# Altium footprint library ECEN299_JLC_PCB1.PcbLib: 15 footprints
Each footprint in its own frame and in the unit in brackets; x right, y up, seen from the top. Pads: shape width x height; smd on the part's side, far side on the other; paste and mask are expansions set on the pad; w line width, h text height; cw(c..) or ccw(c..) is an arc to the next point about the centre after c.
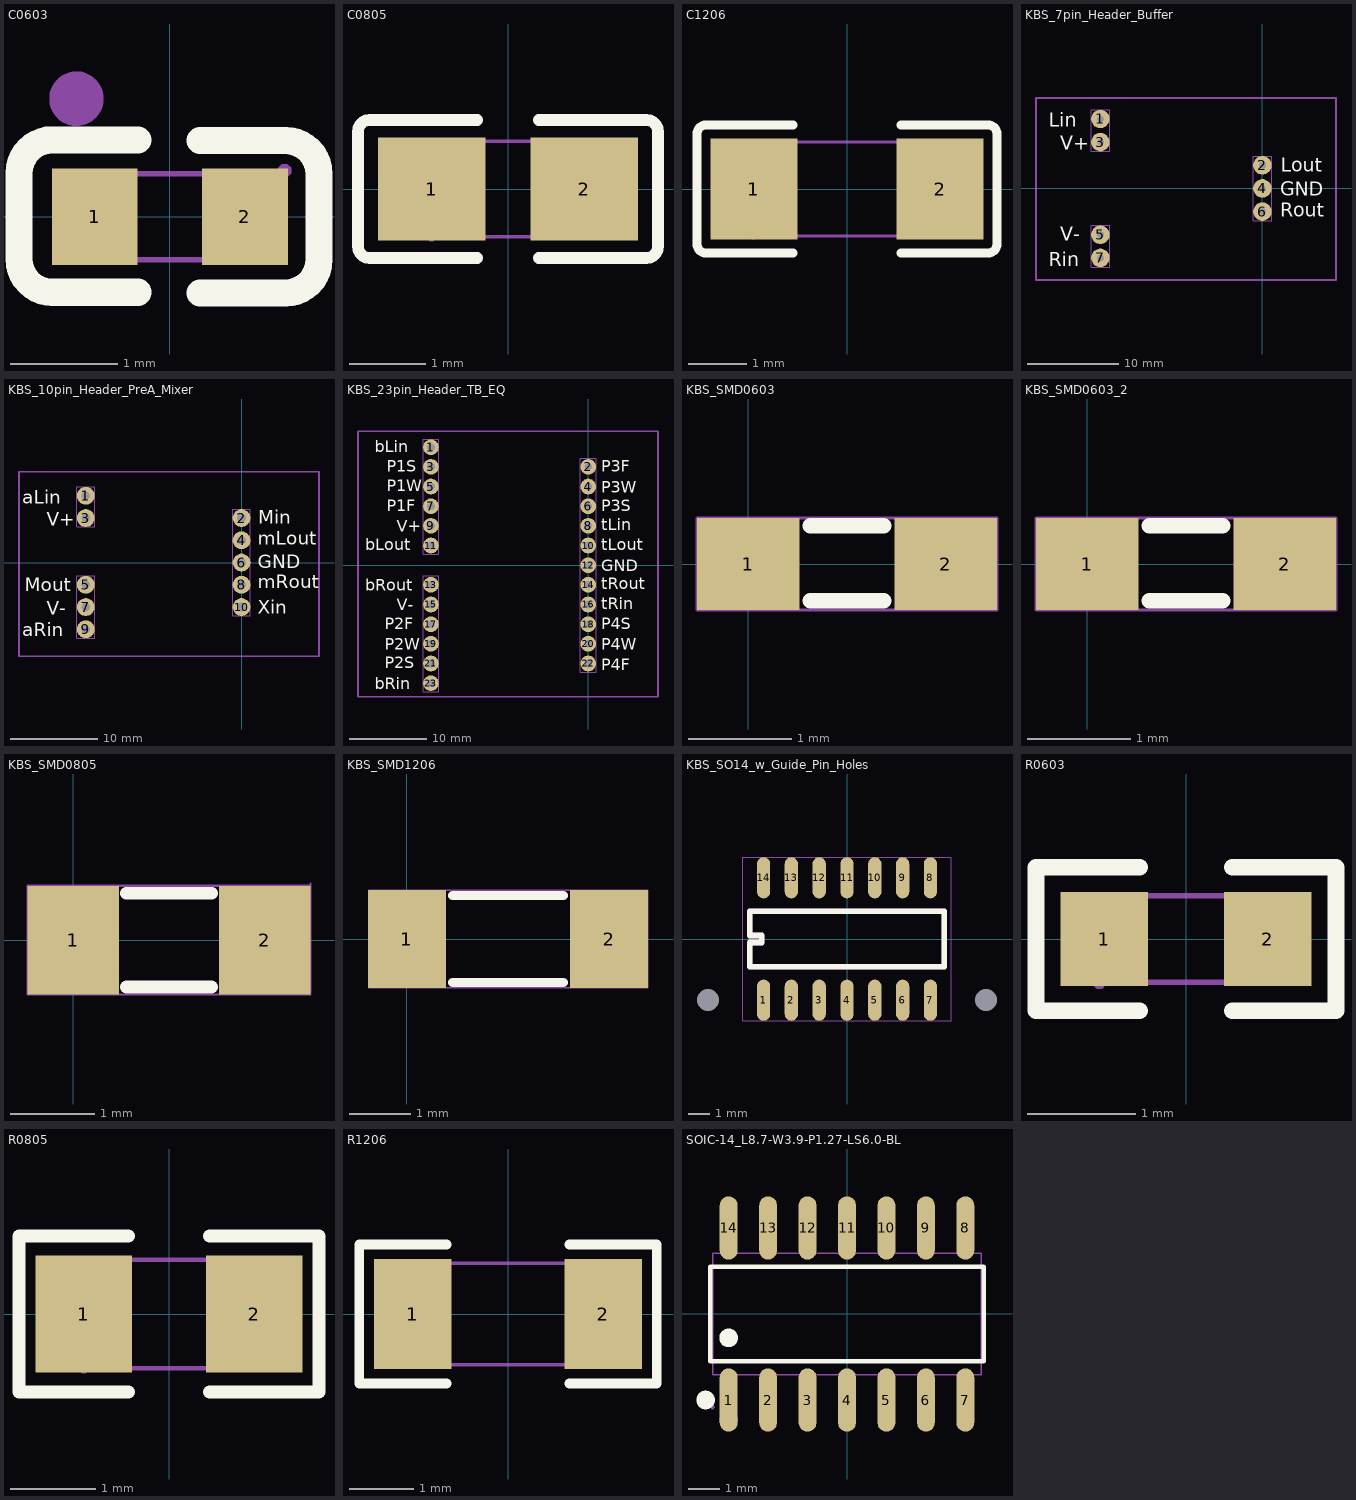
[diagram p0: the footprints below, top view; thin cyan lines are the x and y axes]

## C0603 [mm]
pads (2):
  rect 0.8x0.9 smd paste+0 mask+0.051: 1(-0.7,0) 2(0.7,0)
Top Overlay:
  lines w0.254: -0.296,-0.704 -1.096,-0.704 cw(c-1.096,-0.394) -1.406,-0.394 -1.405,0.406 cw(c-1.096,0.406) -1.096,0.715 -0.296,0.715 ; 0.28,-0.71 1.08,-0.71 ccw(c1.08,-0.4) 1.39,-0.4 1.39,0.4 ccw(c1.08,0.4) 1.08,0.71 0.28,0.71
Mechanical 6:
  circle w0.254: c-0.87,1.1 r0.127
Mechanical 15:
  region: 1.13,0.43 1.13,0.455 1.095,0.49 1.045,0.49 1.01,0.455 1.01,0.43 1.01,0.405 1.045,0.37 1.095,0.37 1.13,0.405 1.13,0.43
  region: -0.8,-0.4 -0.8,0.4 -0.5,0.4 -0.5,-0.4
  region: 0.8,-0.4 0.8,0.4 0.5,0.4 0.5,-0.4
  lines w0.051: -0.8,-0.4 -0.8,0.4 0.8,0.4 0.8,-0.4 -0.8,-0.4

## C0805 [mm]
pads (2):
  rect 1.41x1.35 smd paste-100 mask+0.051: 1(-1,0) 2(1,0)
Top Overlay:
  lines w0.152: -0.401,-0.904 -1.811,-0.904 cw(c-1.811,-0.751) -1.964,-0.751 -1.964,0.751 cw(c-1.811,0.751) -1.811,0.904 -0.401,0.904 ; 0.401,-0.904 1.811,-0.904 ccw(c1.811,-0.751) 1.964,-0.751 1.964,0.751 ccw(c1.811,0.751) 1.811,0.904 0.401,0.904
Top Paste:
  region: 1.705,0.64 1.705,-0.64 1.655,-0.69 0.505,-0.69 0.455,-0.64 0.45,-0.23 0.9,-0.23 0.9,0.22 0.46,0.22 0.455,0.64 0.505,0.69 1.655,0.69
  region: -1.705,-0.64 -1.705,0.64 -1.655,0.69 -0.505,0.69 -0.455,0.64 -0.45,0.23 -0.9,0.23 -0.9,-0.22 -0.46,-0.22 -0.455,-0.64 -0.505,-0.69 -1.655,-0.69
Mechanical 15:
  region: 1,0.625 1,-0.625 0.5,-0.625 0.5,0.625
  region: -1,-0.625 -1,0.625 -0.5,0.625 -0.5,-0.625
  region: -0.94,-0.625 -0.941,-0.601 -0.976,-0.567 -1.024,-0.567 -1.059,-0.601 -1.06,-0.625 -1.059,-0.649 -1.024,-0.683 -0.976,-0.683 -0.941,-0.649 -0.94,-0.625
  lines w0.051: -1,-0.625 1,-0.625 1,0.625 -1,0.625 -1,-0.625

## C1206 [mm]
pads (2):
  rect 1.485x1.728 smd paste-100 mask+0.051: 1(-1.593,0) 2(1.593,0)
Top Overlay:
  lines w0.152: -0.926,-1.093 -2.411,-1.093 cw(c-2.411,-0.94) -2.564,-0.94 -2.564,0.94 cw(c-2.411,0.94) -2.411,1.093 -0.926,1.093 ; 0.926,-1.093 2.411,-1.093 ccw(c2.411,-0.94) 2.564,-0.94 2.564,0.94 ccw(c2.411,0.94) 2.411,1.093 0.926,1.093
Top Paste:
  region: -0.85,-0.764 -0.85,-0.394 -0.95,-0.294 -1.255,-0.294 -1.355,-0.194 -1.355,0.194 -1.255,0.294 -0.95,0.294 -0.85,0.394 -0.85,0.764 -0.95,0.864 -2.235,0.864 -2.335,0.764 -2.335,-0.764 -2.235,-0.864 -0.95,-0.864
  region: 0.85,-0.764 0.85,-0.394 0.95,-0.294 1.255,-0.294 1.355,-0.194 1.355,0.194 1.255,0.294 0.95,0.294 0.85,0.394 0.85,0.764 0.95,0.864 2.235,0.864 2.335,0.764 2.335,-0.764 2.235,-0.864 0.95,-0.864
Mechanical 15:
  region: 1.6,-0.8 1.6,0.8 1.1,0.8 1.1,-0.8
  region: -1.6,-0.8 -1.6,0.8 -1.1,0.8 -1.1,-0.8
  region: -1.54,-0.8 -1.541,-0.776 -1.576,-0.742 -1.624,-0.742 -1.659,-0.776 -1.66,-0.8 -1.659,-0.824 -1.624,-0.858 -1.576,-0.858 -1.541,-0.824 -1.54,-0.8
  lines w0.051: -1.6,-0.8 1.6,-0.8 1.6,0.8 -1.6,0.8 -1.6,-0.8

## KBS_7pin_Header_Buffer [mil]
pads (7):
  round 80 hole 31 mask+2.5: 1(-700,300) 2(0,100) 3(-700,200) 4(0,0) 5(-700,-200) 6(0,-100) 7(-700,-300)
Top Overlay:
  text "Lin" at -923,267 h60
  text "V+" at -873.02,166 h60
  text "V-" at -873.02,-226 h60
  text "Rin" at -923,-336 h60
  text "Lout" at 79,73 h60
  text "GND" at 77,-32 h60
  text "Rout" at 77,-123 h60
Top Courtyard:
  lines w1: -740,-340 -660,-340 -660,-160 -740,-160 -740,-340 ; -740,160 -660,160 -660,340 -740,340 -740,160 ; -40,-140 40,-140 40,140 -40,140 -40,-140
Mechanical 28:
  lines w7.87: -978,-395 318,-395 318,390 -978,390 -978,-395
3D body: height 1, standoff 0, extent -740,160 -660,340
3D body: height 1, standoff 0, extent -740,-340 -660,-160
3D body: height 1, standoff 0, extent -40,-140 40,140

## KBS_10pin_Header_PreA_Mixer [mil]
pads (10):
  round 80 hole 39 mask+2: 1(-700,300) 2(0,200) 3(-700,200) 4(0,100) 5(-700,-100) 6(0,0) 7(-700,-200) 8(0,-100) 9(-700,-300) 10(0,-200)
Top Overlay:
  text "aLin" at -985,265 h60
  text "V+" at -875.04,166 h60
  text "V-" at -875.04,-234 h60
  text "Mout" at -975,-129 h60
  text "aRin" at -985,-331 h60
  text "Min" at 75,174 h60
  text "mLout" at 72,80 h60
  text "GND" at 72,-25 h60
  text "mRout" at 72,-115 h60
  text "Xin" at 73,-230 h60
Top Courtyard:
  lines w1: -740,-340 -740,-60 -660,-60 -660,-340 -740,-340 ; -740,160 -740,340 -660,340 -660,160 -740,160 ; -40,-240 -40,240 40,240 40,-240 -40,-240
Mechanical 28:
  lines w7.87: -1000,-421 -1000,408 348,408 348,-421 -1000,-421
3D body: height 1, standoff 0, extent -40,-240 40,240
3D body: height 1, standoff 0, extent -740,-340 -660,-60
3D body: height 1, standoff 0, extent -740,160 -660,340

## KBS_23pin_Header_TB_EQ [mil]
pads (23):
  round 80 hole 39 mask+2: 1(-800,600) 2(0,500) 3(-800,500) 4(0,400) 5(-800,400) 6(0,300) 7(-800,300) 8(0,200) 9(-800,200) 10(0,100) 11(-800,100) 12(0,0) 13(-800,-100) 14(0,-100) 15(-800,-200) 16(0,-200) 17(-800,-300) 18(0,-300) 19(-800,-400) 20(0,-400) 21(-800,-500) 22(0,-500) 23(-800,-600)
Top Overlay:
  text "P4F" at 65.99,-535 h60
  text "P4W" at 65.99,-429 h60
  text "P4S" at 65.99,-327 h60
  text "tRin" at 65.99,-225 h60
  text "tRout" at 65.99,-122 h60
  text "GND" at 65.99,-30 h60
  text "tLout" at 65.99,75 h60
  text "tLin" at 65.99,178 h60
  text "P3S" at 65.99,274 h60
  text "P3W" at 65.99,368 h60
  text "P3F" at 65.99,476 h60
  text "bRin" at -1084.98,-630 h60
  text "P2S" at -1035,-525 h60
  text "P2W" at -1035,-430 h60
  text "P2F" at -1035,-325 h60
  text "V-" at -975.02,-230 h60
  text "bRout" at -1134.96,-130 h60
  text "bLout" at -1134.96,75 h60
  text "V+" at -975.02,170 h60
  text "P1F" at -1025,275 h60
  text "P1W" at -1025,375 h60
  text "P1S" at -1025,475 h60
  text "bLin" at -1084.98,575 h60
Top Courtyard:
  lines w1: -840,-645 -760,-645 -760,-55 -840,-55 -840,-645 ; -840,55 -760,55 -760,640 -840,640 -840,55 ; -40,-545 40,-545 40,545 -40,545 -40,-545
Mechanical 28:
  lines w7.87: -1171,-670 355,-670 355,682 -1171,682 -1171,-670
3D body: height 1, standoff 0, extent -840,55 -760,640
3D body: height 1, standoff 0, extent -840,-645 -760,-55
3D body: height 1, standoff 0, extent -40,-545 40,545

## KBS_SMD0603 [mil]
pads (2):
  rrect1% 39x35 smd mask+2.5: 1(0,0) 2(75,0)
Top Overlay:
  lines w6: 23.5,-14 51.5,-14 ; 23.5,14.5 51.5,14.5
Top Courtyard:
  lines w1: -19.5,-17.5 -19.5,17.5 94.5,17.5 94.5,-17.5 -19.5,-17.5
3D body: height 1, standoff 0, extent -19.6,-17.56 93.4,17.44

## KBS_SMD0603_2 [mil]
pads (2):
  rrect1% 39x35 smd mask+2.5: 1(0,0) 2(75,0)
Top Overlay:
  lines w6: 23.5,-14 51.5,-14 ; 23.5,14.5 51.5,14.5
Top Courtyard:
  lines w1: -19.5,-17.5 -19.5,17.5 94.5,17.5 94.5,-17.5 -19.5,-17.5
3D body: height 1, standoff 0, extent -19.6,-17.56 93.4,17.44

## KBS_SMD0805 [mil]
pads (2):
  rrect1% 43x51 smd mask+2.5: 1(0,0) 2(90,0)
Top Overlay:
  lines w6: 25,-22 65,-22 ; 25,22 65,22
Top Courtyard:
  lines w1: 111.5,-25.5 -21.5,-25.5 -21.5,25.5 111.5,25.5 ; 111.5,-24.5 111.5,26.5
3D body: height 1, standoff 0, extent -20.9,-26.14 112.1,24.86

## KBS_SMD1206 [mil]
pads (2):
  rrect1% 50x63 smd mask+2.5: 1(0,0) 2(130,0)
Top Overlay:
  lines w6: 29.5,-28 100.5,-28 ; 29.5,28 100.5,28
Top Courtyard:
  lines w1: -24.5,-31.5 155,-31.5 155,31.5 -24.5,31.5 -24.5,-31.5
3D body: height 1, standoff 0, extent -24.46,-32.04 154.54,30.99

## KBS_SO14_w_Guide_Pin_Holes [mil]
pads (16):
  oval 24x74 smd paste+0 mask+2: 1(-150,-110) 2(-100,-110) 3(-50,-110) 4(0,-110) 5(50,-110) 6(100,-110) 7(150,-110) 8(150,110) 9(100,110) 10(50,110) 11(0,110) 12(-50,110) 13(-100,110) 14(-150,110)
  round 0 hole 39.37 unplated mask+0: MH_1(250,-110) MH_2(-250,-110)
Top Overlay:
  lines w10: -175,-50 175,-50 175,50 -175,50 -175,6.25 -153.13,6.25 -153.13,-6.25 -175,-6.25 -175,-50
Top Assembly:
  lines w10: -175,-50 175,-50 175,50 -175,50 -175,6.25 -153.13,6.25 -153.13,-6.25 -175,-6.25 -175,-50
Top Courtyard:
  lines w1: -187,-147 -187,147 187,147 187,-147 -187,-147
3D body: height 1, standoff 0, extent -187,-147 187,147

## R0603 [mil]
pads (2):
  rect 31.75x34.02 smd paste-3937.01 mask+2: 1(-29.66,0) 2(29.66,0)
Top Overlay:
  lines w6: -16.78,-26.01 -54.53,-26.01 -54.53,26.01 -16.78,26.01 ; 16.78,-26.01 54.53,-26.01 54.53,26.01 16.78,26.01
Top Paste:
  region: -47.05,-17.72 -15.55,-17.72 -13.58,-15.75 -13.58,-6.77 -28.15,-6.77 -28.15,6.22 -13.58,6.22 -13.58,15.75 -15.55,17.72 -47.05,17.72 -49.02,15.75 -49.02,-15.75
  region: 47.05,17.72 15.55,17.72 13.58,15.75 13.58,6.77 28.15,6.77 28.15,-6.22 13.58,-6.22 13.58,-15.75 15.55,-17.72 47.05,-17.72 49.02,-15.75 49.02,15.75
Mechanical 15:
  region: 31.5,-15.75 31.5,15.75 19.68,15.75 19.68,-15.75
  region: -31.5,-15.75 -31.5,15.75 -19.68,15.75 -19.68,-15.75
  region: -29.14,-15.75 -29.16,-14.79 -30.53,-13.44 -32.46,-13.44 -33.84,-14.78 -33.86,-15.75 -33.84,-16.71 -32.46,-18.06 -30.54,-18.06 -29.16,-16.71 -29.14,-15.75
  lines w2: -31.5,-15.75 31.5,-15.75 31.5,15.75 -31.5,15.75 -31.5,-15.75

## R0805 [mm]
pads (2):
  rect 1.133x1.377 smd paste-100 mask+0.051: 1(-1,0) 2(1,0)
Top Overlay:
  lines w0.152: -0.476,-0.917 -1.761,-0.917 -1.761,0.917 -0.476,0.917 ; 0.476,-0.917 1.761,-0.917 1.761,0.917 0.476,0.917
Top Paste:
  region: 0.45,-0.64 0.45,-0.22 0.895,-0.22 0.895,0.23 0.455,0.23 0.45,0.64 0.5,0.69 1.65,0.69 1.7,0.64 1.7,-0.64 1.65,-0.69 0.5,-0.69
  region: -1.7,-0.64 -1.7,0.64 -1.65,0.69 -0.5,0.69 -0.45,0.64 -0.445,0.23 -0.895,0.23 -0.895,-0.22 -0.455,-0.22 -0.45,-0.64 -0.5,-0.69 -1.65,-0.69
Mechanical 15:
  region: 1,-0.637 1,0.637 0.6,0.637 0.6,-0.637
  region: -1,-0.637 -1,0.637 -0.6,0.637 -0.6,-0.637
  region: -0.94,-0.638 -0.941,-0.613 -0.976,-0.579 -1.024,-0.579 -1.059,-0.613 -1.06,-0.638 -1.059,-0.662 -1.024,-0.696 -0.975,-0.696 -0.941,-0.662 -0.94,-0.638
  lines w0.051: -1,-0.637 1,-0.637 1,0.637 -1,0.637 -1,-0.637

## R1206 [mil]
pads (2):
  rect 47.54x66.97 smd paste-3937.01 mask+2: 1(-58.22,0) 2(58.22,0)
Top Overlay:
  lines w6: -37.45,-42.48 -90.99,-42.48 -90.99,42.48 -37.45,42.48 ; 37.45,-42.48 90.99,-42.48 90.99,42.48 37.45,42.48
Top Paste:
  region: -34.45,-29.55 -34.45,-15.32 -38.39,-11.38 -46.68,-11.38 -50.61,-7.45 -50.61,7.45 -46.68,11.38 -38.39,11.38 -34.45,15.32 -34.45,29.55 -38.39,33.48 -78.05,33.48 -81.99,29.55 -81.99,-29.55 -78.05,-33.48 -38.39,-33.48
  region: 34.45,-29.55 34.45,-15.32 38.39,-11.38 46.68,-11.38 50.61,-7.45 50.61,7.45 46.68,11.38 38.39,11.38 34.45,15.32 34.45,29.55 38.39,33.48 78.05,33.48 81.99,29.55 81.99,-29.55 78.05,-33.48 38.39,-33.48
Mechanical 15:
  region: 61.02,-31 61.02,31 43.31,31 43.31,-31
  region: -61.02,-31 -61.02,31 -43.31,31 -43.31,-31
  region: -58.66,-31 -58.68,-30.04 -60.06,-28.69 -61.98,-28.69 -63.36,-30.04 -63.38,-31 -63.36,-31.97 -61.98,-33.31 -60.05,-33.31 -58.68,-31.96 -58.66,-31
  lines w2: -61.02,-31 61.02,-31 61.02,31 -61.02,31 -61.02,-31

## SOIC-14_L8.7-W3.9-P1.27-LS6.0-BL [mil]
pads (14):
  oval 22.6x80.24 smd paste+0 mask+2: 1(-150,-109.02) 2(-100,-109.02) 3(-50,-109.02) 4(0,-109.02) 5(50,-109.02) 6(100,-109.02) 7(150,-109.02) 8(150,109.02) 9(100,109.02) 10(50,109.02) 11(0,109.02) 12(-50,109.02) 13(-100,109.02) 14(-150,109.02)
Top Overlay:
  circle w11.81: c-150,-30.28 r5.91
  circle w11.81: c-179.11,-109.02 r5.91
  lines w6: -173.28,-59.9 -173.28,59.9 173.28,59.9 173.28,-59.9 -173.28,-59.9
Mechanical 6:
  circle w11.81: c-150,-133.86 r5.91
Mechanical 15:
  drawing of 33 lines, arcs and shapes, not listed